# Altium schematic symbol library Resistors.SchLib: 3 symbols
Pins are listed as number, name and electrical type; pins without a type are passive.

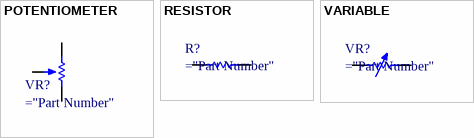
[diagram p0: symbols POTENTIOMETER to VARIABLE]

## POTENTIOMETER
designator VR?
pins: 1, 2, 3

## RESISTOR
designator R?
pins: 1, 2

## VARIABLE
designator VR?
pins: 1, 2